# EAGLE library part HEF4060B (library custom)
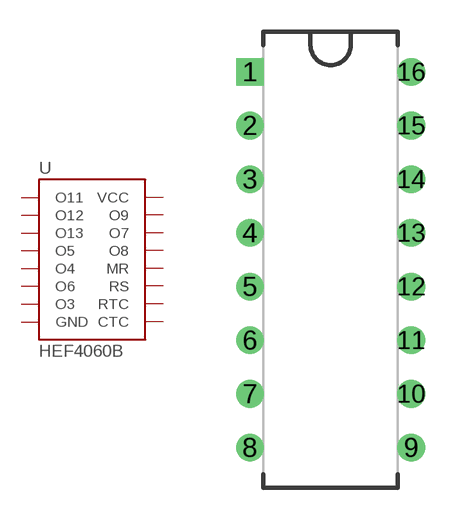
[diagram p8: symbol with the pads of DIP16; footprint DIP16]

Designator prefix -

## HEF4060BHEF4060BP  [DIP16]
1  O11
2  O12
3  O13
4  O5
5  O4
6  O6
7  O3
8  GND
9  CTC
10  RTC
11  RS
12  MR
13  O8
14  O7
15  O9
16  VCC

## Footprint DIP16 (pad centres in mm)
drill 0.8 square: 1 -3.81,8.89
drill 0.8: 2 -3.81,6.35; 3 -3.81,3.81; 4 -3.81,1.27; 5 -3.81,-1.27; 6 -3.81,-3.81; 7 -3.81,-6.35; 8 -3.81,-8.89; 9 3.81,-8.89; 10 3.81,-6.35; 11 3.81,-3.81; 12 3.81,-1.27; 13 3.81,1.27; 14 3.81,3.81; 15 3.81,6.35; 16 3.81,8.89